# Altium footprint library HORNET_MOTOR_CONTROLLER.PcbLib: 1 footprints
Each footprint in its own frame and in the unit in brackets; x right, y up, seen from the top. Pads: shape width x height; smd on the part's side, far side on the other; paste and mask are expansions set on the pad; w line width, h text height; cw(c..) or ccw(c..) is an arc to the next point about the centre after c.
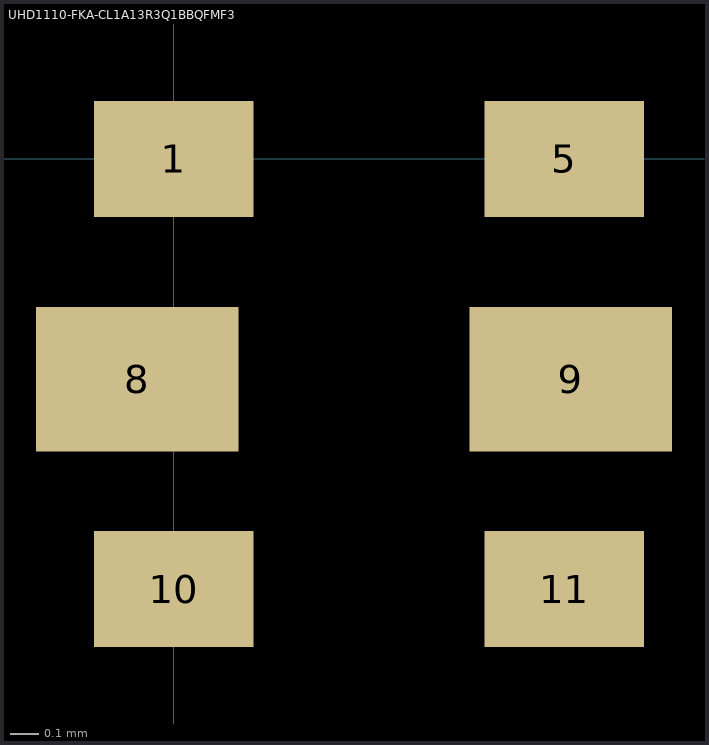
[diagram p0: the footprint, top view; thin cyan lines are the x and y axes]

## UHD1110-FKA-CL1A13R3Q1BBQFMF3 [mm]
pads (6):
  rect 0.55x0.4 smd: 1(0,0) 5(1.35,0) 10(0,-1.487) 11(1.35,-1.487)
  rect 0.7x0.5 smd: 8(-0.127,-0.762) 9(1.373,-0.762)
3D body "4T--3DModel-STEP-56544.STEP": height 0.5, standoff 0, extent -0.127,-1.558 1.473,0.042